# EAGLE library part AT90USB*2 (library steves)
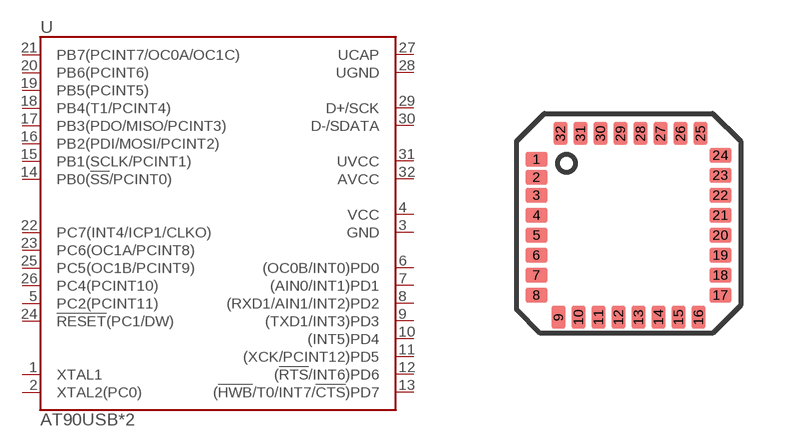
[diagram p14: symbol with the pads of QFN32; footprint QFN32]

Designator prefix -

## AT90USB2M  [QFN32]
1  XTAL1
2  XTAL2(PC0)
3  GND  pwr
4  VCC  pwr
5  PC2(PCINT11)
6  (OC0B/INT0)PD0
7  (AIN0/INT1)PD1
8  (RXD1/AIN1/INT2)PD2
9  (TXD1/INT3)PD3
10  (INT5)PD4
11  (XCK/PCINT12)PD5
12  (!RTS!/INT6)PD6
13  (!HWB!/T0/INT7/!CTS!)PD7
14  PB0(!SS!/PCINT0)
15  PB1(SCLK/PCINT1)
16  PB2(PDI/MOSI/PCINT2)
17  PB3(PDO/MISO/PCINT3)
18  PB4(T1/PCINT4)
19  PB5(PCINT5)
20  PB6(PCINT6)
21  PB7(PCINT7/OC0A/OC1C)
22  PC7(INT4/ICP1/CLKO)
23  PC6(OC1A/PCINT8)
24  !RESET!(PC1/DW)
25  PC5(OC1B/PCINT9)
26  PC4(PCINT10)
27  UCAP  pwr
28  UGND  pwr
29  D+/SCK
30  D-/SDATA
31  UVCC  pwr
32  AVCC  pwr

## Footprint QFN32 (pad centres in mm)
smd 0.55 x 0.35: 1 -2.3,1.65; 2 -2.3,1.2; 3 -2.3,0.75; 4 -2.3,0.25; 5 -2.3,-0.25; 6 -2.3,-0.75; 7 -2.3,-1.25; 8 -2.3,-1.75; 17 2.3,-1.75; 18 2.3,-1.25; 19 2.3,-0.75; 20 2.3,-0.25; 21 2.3,0.25; 22 2.3,0.75; 23 2.3,1.25; 24 2.3,1.75
smd 0.35 x 0.55: 9 -1.75,-2.3; 10 -1.25,-2.3; 11 -0.75,-2.3; 12 -0.25,-2.3; 13 0.25,-2.3; 14 0.75,-2.3; 15 1.25,-2.3; 16 1.75,-2.3; 25 1.8,2.3; 26 1.3,2.3; 27 0.8,2.3; 28 0.3,2.3; 29 -0.2,2.3; 30 -0.7,2.3; 31 -1.2,2.3; 32 -1.7,2.3